# Altium schematic symbol library SW_1P1T_1.Schlib: 1 symbol
Pins are listed as number, name and electrical type; pins without a type are passive.

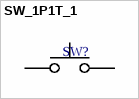
[diagram p0: symbol SW_1P1T_1]

## SW_1P1T_1
designator SW?  (value not drawn)
Switch, 1P1T
pins: 1, 2